# Altium schematic symbol library LM5110-1M.Schlib: 1 symbol
Pins are listed as number, name and electrical type; pins without a type are passive.

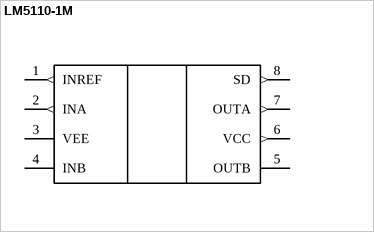
[diagram p0: symbol LM5110-1M]

## LM5110-1M
designator DD?
Driver
pins: 1 INREF (out), 2 INA (out), 3 VEE (power), 4 INB (power), 5 OUTB (power), 6 VCC (out), 7 OUTA (out), 8 SD (out)